# Altium schematic symbol library MCD_TOOLS.SchLib: 86 symbols
Pins are listed as number, name and electrical type; pins without a type are passive.

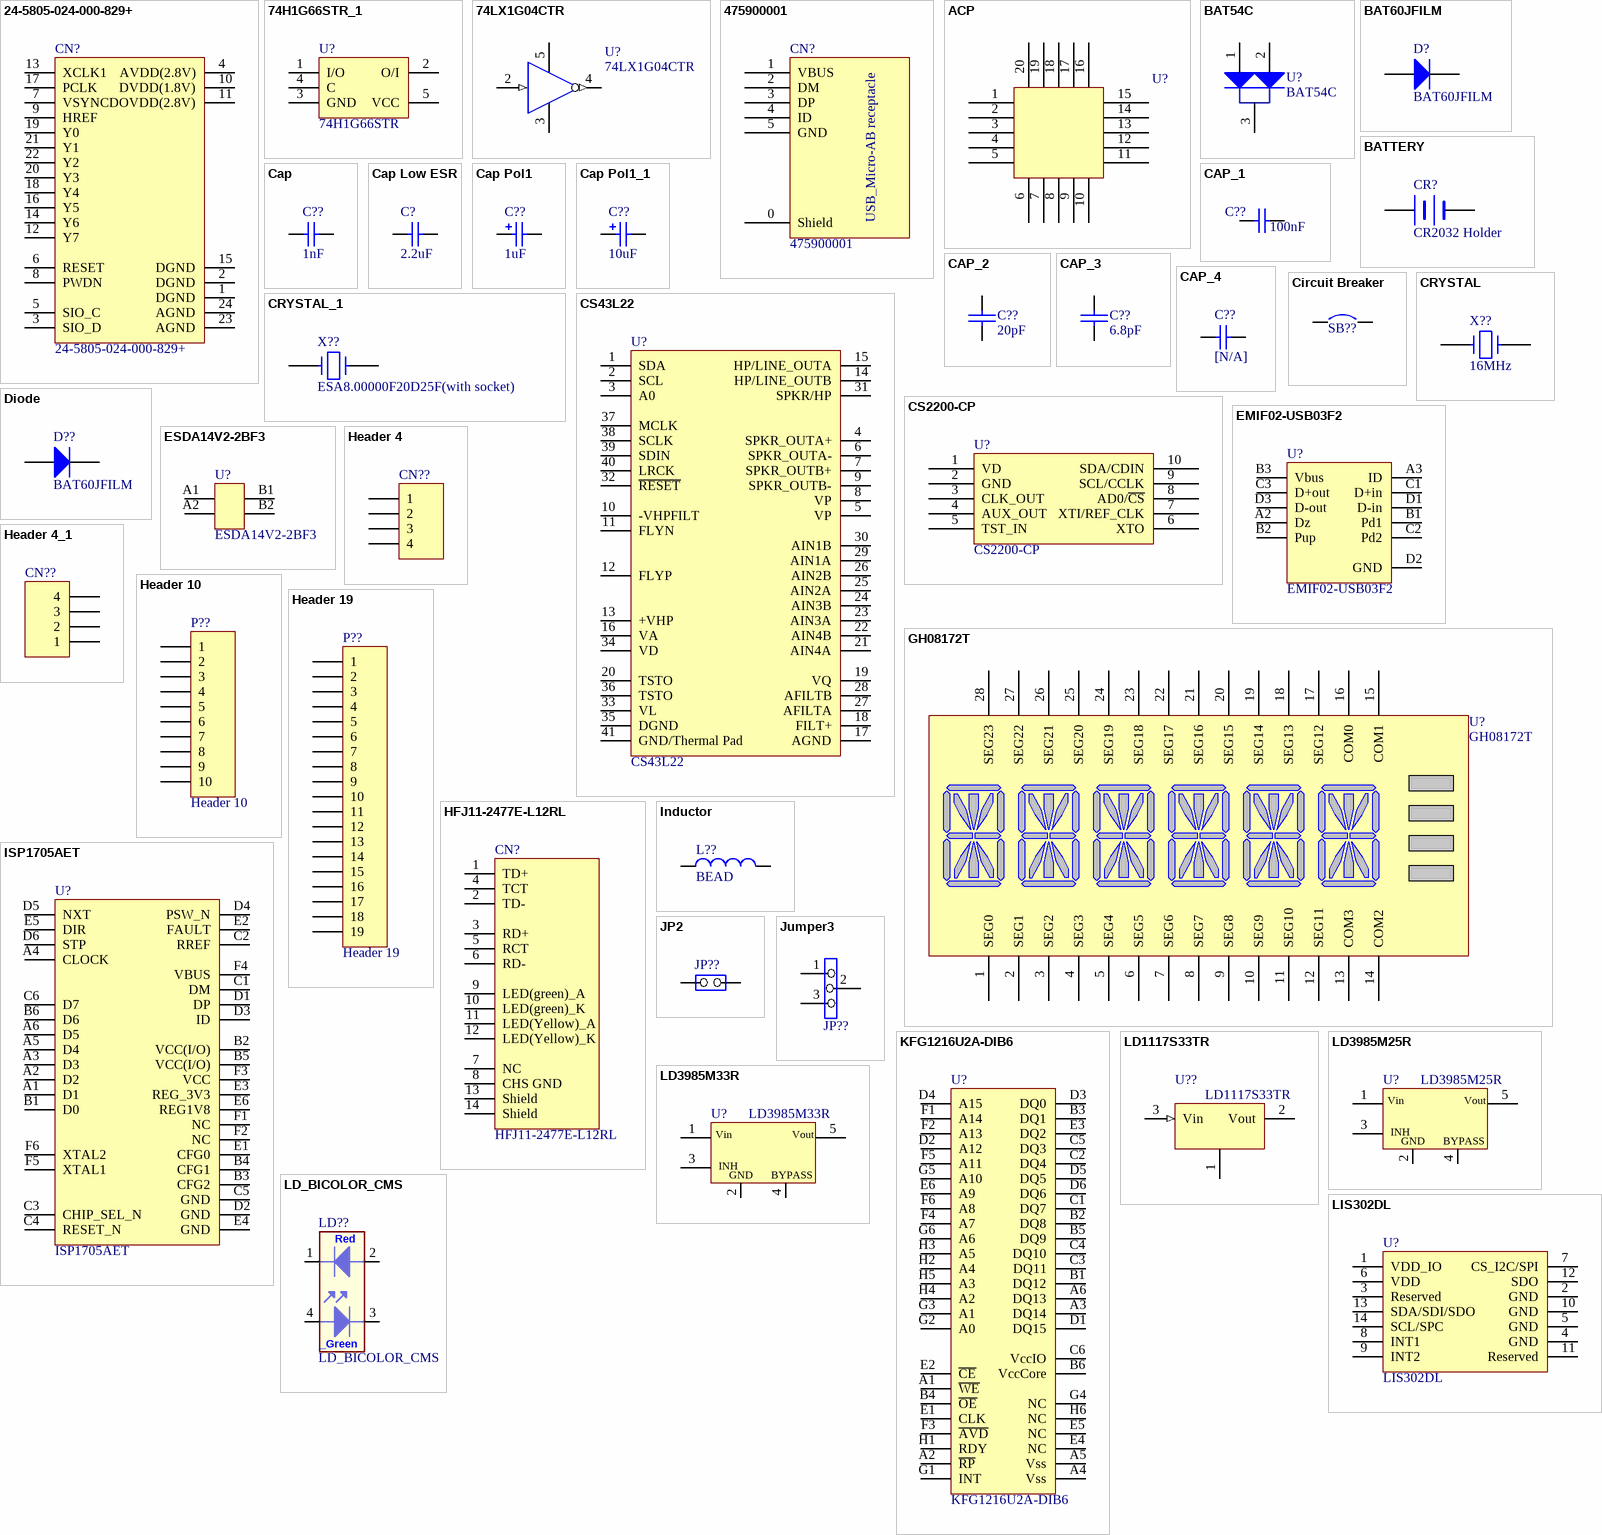
[diagram p0: symbols 24-5805-024-000-829+ to LIS302DL]

## 24-5805-024-000-829+
designator CN?
pins: 1 DGND, 2 DGND, 3 SIO_D, 4 AVDD(2.8V), 5 SIO_C, 6 RESET, 7 VSYNC, 8 PWDN, 9 HREF, 10 DVDD(1.8V), 11 DOVDD(2.8V), 12 Y7, 13 XCLK1, 14 Y6, 15 DGND, 16 Y5, 17 PCLK, 18 Y4, 19 Y0, 20 Y3, 21 Y1, 22 Y2, 23 AGND, 24 AGND

## 74H1G66STR_1
designator U?, comment 74H1G66STR
Provided: ST
footprint Model Name (Footprint not found)
footprint SOT-23-5L
pins: 1 I/O, 2 O/I, 3 GND, 4 C, 5 VCC

## 74LX1G04CTR
designator U?
Provided: ST
footprint Model Name (Footprint not found)
footprint SOT323-5L
pins: 1 NC hidden, 2 1A (in), 3 GND, 4 1Y (out), 5 VCC

## 475900001
designator CN?
pins: 0 Shield, 1 VBUS, 2 DM, 3 DP, 4 ID, 5 GND
text: USB_Micro-AB receptacle

## ACP
designator U?
pins: 1, 2, 3, 4, 5, 6, 7, 8, 9, 10, 11, 12, 13, 14, 15, 16, 17, 18, 19, 20

## BAT54C
designator U?
pins: 1, 2, 3

## BAT60JFILM
designator D?
Manuf_1: STM; Code - JEDEC: DO-214-AB; Provided: ST; Published: 8-Jun-2000; Revision: July-2002: Re-released for DXP Platform.; Publisher: Altium Limited; Order: BAT60JFILM; Manuf_Part_1: BAT60JFILM; Distrib: ST
footprint DSO-C2/X3.3 (DO-214-AB/SMC; 2 C-Bend Leads; Body 7.9 x 5.9 mm, inc. leads (LxW))
simulation model DIODE (Diode)
signal-integrity model Diode
footprint SOD323/A
pins: 1 A, 2 K

## BATTERY
designator CR?, comment CR2032 Holder
Battery; Manufacturer_1: Lotes; Manufacturer_Part_1: KB7410AP2L; Footprint: CR2032/SMT; Dristrib: http://www.bestbattery.co.kr/lotes/lotes.htm
footprint BATT-2.4V160mAH
footprint SOCKET BATTERY AAA DOUBLE
footprint SOCKET BATTERY CR2032 (TRAV)
footprint SOCKET BATTERY CR2032 CMS (1)
footprint SOCKET BATTERY CR2032 CMS (2)
footprint SOCKET BATTERY CR2032 CMS (Keystone)
footprint SOCKET BATTERY LR61/PP3/9V
footprint SOCKET BATTERY LR61/PP3/9V (2)
footprint SOCKET BATTERY AA SIMPLE
pins: 1 +, 2 -
2 alternate drawings of the same symbol

## Cap
designator C??, comment 1nF
Capacitor; Published: 8-Jun-2000; Revision: July-2002: Re-released for DXP Platform.; Publisher: Altium Limited; Value: 1nF
simulation model CAP (Capacitor)
signal-integrity model Cap
footprint 0603 (Footprint not found)
footprint 0603C
footprint 0402C
pins: 1, 2

## Cap Low ESR
designator C?, comment 2.2uF
Low ESR Ceramic Capacitor (X7R); Order: CC1206KKX7R7BB225; Published: 8-Jun-2000; Revision: July-2002: Re-released for DXP Platform.; Publisher: Altium Limited; Value: 2.2uF; Distrib: www.yageo.com
simulation model CAP (Capacitor)
signal-integrity model C200M
footprint CASE-A
pins: 1, 2

## Cap Pol1
designator C??, comment 1uF
Polarized Capacitor (Radial); Published: 8-Jun-2000; Revision: July-2002: Re-released for DXP Platform.; Publisher: Altium Limited; Value: 1uF
simulation model CAP (Capacitor)
signal-integrity model C200M
footprint 3528 (Footprint not found)
footprint TAN-B
footprint 0603C
pins: 1, 2

## Cap Pol1_1
designator C??, comment 10uF
Polarized Capacitor (Radial); Published: 8-Jun-2000; Revision: July-2002: Re-released for DXP Platform.; Publisher: Altium Limited; Value: 10uF
simulation model CAP (Capacitor)
signal-integrity model C200M
footprint 3528 (Footprint not found)
footprint TAN-B
footprint CASE-A
pins: 1, 2

## CAP_1
designator C??, comment 100nF
Capacitor; Value: 100pF; Published: 8-Jun-2000; Revision: July-2002: Re-released for DXP Platform.; Publisher: Altium Limited
footprint RAD-0.3 (Capacitor; 2 Leads)
simulation model CAP (Capacitor)
signal-integrity model Cap
footprint CAPR5.08-7.8X3.2
footprint CAPR2.54-5.1X3.2
footprint 0603
footprint 0603P
footprint 0603C
footprint 0402C
pins: 1, 2

## CAP_2
designator C??, comment 20pF
Capacitor
footprint 0603 (Footprint not found)
footprint 0603C
pins: 1, 2
2 alternate drawings of the same symbol

## CAP_3
designator C??, comment 6.8pF
Capacitor
footprint 0603 (Footprint not found)
footprint 0603C
pins: 1, 2

## CAP_4
designator C??, comment [N/A]
Capacitor; Value: 100pF; Fitted: NO; Published: 8-Jun-2000; Revision: July-2002: Re-released for DXP Platform.; Publisher: Altium Limited
footprint RAD-0.3 (Capacitor; 2 Leads)
simulation model CAP (Capacitor)
signal-integrity model Cap
footprint CAPR5.08-7.8X3.2
footprint CAPR2.54-5.1X3.2
footprint 0603C
pins: 1, 2

## Circuit Breaker
designator SB??  (value not drawn)
Solder: YES; Published: 24-Mar-1999; Revision: July-2002: Re-released for DXP Platform.; Publisher: Altium Limited
footprint SPST-2 (Circuit Breaker; 2 Leads)
footprint JP2_SMD
pins: 1, 2

## CRYSTAL
designator X??, comment 16MHz
Crystal; Fitted: NO
footprint XTAL1 (Footprint not found)
footprint XTAL_SOCKET
pins: 1, 2
2 alternate drawings of the same symbol

## CRYSTAL_1
designator X??, comment ESA8.00000F20D25F(with socket)
Crystal
footprint XTAL1 (Footprint not found)
footprint HC-49AAAAA
pins: 1, 2
2 alternate drawings of the same symbol

## CS43L22
designator U?
Low Power, Stereo DAC w/Headphone & Speaker Amps; Order: *; Manuf_1: *; Manuf_Part_1: *; Fooprint: *
footprint QFN40 (Footprint not found)
pins: 1 SDA, 2 SCL, 3 A0, 4 SPKR_OUTA+, 5 VP, 6 SPKR_OUTA-, 7 SPKR_OUTB+, 8 VP, 9 SPKR_OUTB-, 10 -VHPFILT, 11 FLYN, 12 FLYP, 13 +VHP, 14 HP/LINE_OUTB, 15 HP/LINE_OUTA, 16 VA, 17 AGND, 18 FILT+, 19 VQ, 20 TSTO, 21 AIN4A, 22 AIN4B, 23 AIN3A, 24 AIN3B, 25 AIN2A, 26 AIN2B, 27 AFILTA, 28 AFILTB, 29 AIN1A, 30 AIN1B, 31 SPKR/HP, 32 ~{RESET}, 33 VL, 34 VD, 35 DGND, 36 TSTO, 37 MCLK, 38 SCLK, 39 SDIN, 40 LRCK, 41 GND/Thermal Pad

## CS2200-CP
designator U?
pins: 1 VD, 2 GND, 3 CLK_OUT, 4 AUX_OUT, 5 TST_IN, 6 XTO, 7 XTI/REF_CLK, 8 AD0/~{CS}, 9 SCL/CCLK, 10 SDA/CDIN

## Diode
designator D??, comment BAT60JFILM
Default Diode; Code - JEDEC: DO-214-AB; Provided: ST; Published: 8-Jun-2000; Revision: July-2002: Re-released for DXP Platform.; Publisher: Altium Limited
footprint DSO-C2/X3.3 (DO-214-AB/SMC; 2 C-Bend Leads; Body 7.9 x 5.9 mm, inc. leads (LxW))
simulation model DIODE (Diode)
signal-integrity model Diode
footprint SOD323/A
pins: 1 A, 2 K

## EMIF02-USB03F2
designator U?
2-line IPAD, EMI filter including ESD protection; Manuf_1: STM; Provided: ST; Order: EMIF02-USB03F2; Manuf_Part_1: EMIF02-USB03F2
footprint Flip Chip (Footprint not found)
pins: A2 Dz, A3 ID, B1 Pd1, B2 Pup, B3 Vbus, C1 D+in, C2 Pd2, C3 D+out, D1 D-in, D2 GND, D3 D-out

## ESDA14V2-2BF3
designator U?
pins: A1, A2, B1, B2

## GH08172T
designator U?
footprint DIP28 (Footprint not found)
pins: 1 SEG0, 2 SEG1, 3 SEG2, 4 SEG3, 5 SEG4, 6 SEG5, 7 SEG6, 8 SEG7, 9 SEG8, 10 SEG9, 11 SEG10, 12 SEG11, 13 COM3, 14 COM2, 15 COM1, 16 COM0, 17 SEG12, 18 SEG13, 19 SEG14, 20 SEG15, 21 SEG16, 22 SEG17, 23 SEG18, 24 SEG19, 25 SEG20, 26 SEG21, 27 SEG22, 28 SEG23

## Header 4
designator CN??  (value not drawn)
Header, 4-Pin; Revision: 17-Jul-2002: Re-released for DXP Platform.; Publisher: Altium Limited
signal-integrity model Connector
footprint Header 4 (Footprint not found)
pins: 1, 2, 3, 4

## Header 4_1
designator CN??, comment Header 4  (value not drawn)
Header, 4-Pin; Revision: 17-Jul-2002: Re-released for DXP Platform.; Publisher: Altium Limited
signal-integrity model Connector
footprint Header 4 (Footprint not found)
pins: 1, 2, 3, 4

## Header 10
designator P??
Header, 10-Pin; LatestRevisionDate: 17-Jul-2002; LatestRevisionNote: Re-released for DXP Platform.; Publisher: Altium Limited
footprint HDR1X10 (Connector; Header; 10 Position)
signal-integrity model Connector
pins: 1, 2, 3, 4, 5, 6, 7, 8, 9, 10

## Header 19
designator P??
Header, 19-Pin; LatestRevisionDate: 17-Jul-2002; LatestRevisionNote: Re-released for DXP Platform.; Publisher: Altium Limited
footprint HDR1X19 (Connector; Header; 19 Position)
signal-integrity model Connector
pins: 1, 2, 3, 4, 5, 6, 7, 8, 9, 10, 11, 12, 13, 14, 15, 16, 17, 18, 19

## HFJ11-2477E-L12RL
designator CN?
pins: 1 TD+, 2 TD-, 3 RD+, 4 TCT, 5 RCT, 6 RD-, 7 NC, 8 CHS GND, 9 LED(green)_A, 10 LED(green)_K, 11 LED(Yellow)_A, 12 LED(Yellow)_K, 13 Shield, 14 Shield

## Inductor
designator L??, comment BEAD
Inductor; Value: 100uH; Published: 8-Jun-2000; Revision: July-2002: Re-released for DXP Platform.; Publisher: Altium Limited
footprint 0603 (Footprint not found)
footprint 0603L
pins: 1, 2

## ISP1705AET
designator U?
footprint TFBGA36 (Footprint not found)
pins: A1 D1, A2 D2, A3 D3, A4 CLOCK, A5 D4, A6 D5, B1 D0, B2 VCC(I/O), B3 CFG2, B4 CFG1, B5 VCC(I/O), B6 D6, C1 DM, C2 RREF, C3 CHIP_SEL_N, C4 RESET_N, C5 GND, C6 D7, D1 DP, D2 GND, D3 ID, D4 PSW_N, D5 NXT, D6 STP, E1 CFG0, E2 FAULT, E3 REG_3V3, E4 GND, E5 DIR, E6 REG1V8, F1 NC, F2 NC, F3 VCC, F4 VBUS, F5 XTAL1, F6 XTAL2

## JP2
designator JP??
footprint SIP2/2.54
pins: 1 COMMON, 2 NO

## Jumper3
designator JP??
footprint SIP3 (Footprint not found)
pins: 1, 2, 3

## KFG1216U2A-DIB6
designator U?
footprint FBGA63 (Footprint not found)
pins: A1 ~{WE}, A2 ~{RP}, A3 DQ14, A4 Vss, A5 Vss, A6 DQ13, B1 DQ12, B2 DQ8, B3 DQ1, B4 ~{OE}, B5 DQ9, B6 VccCore, C1 DQ7, C2 DQ4, C3 DQ11, C4 DQ10, C5 DQ3, C6 VccIO, D1 DQ15, D2 A12, D3 DQ0, D4 A15, D5 DQ5, D6 DQ6, E1 CLK, E2 ~{CE}, E3 DQ2, E4 NC, E5 NC, E6 A9, F1 A14, F2 A13, F3 ~{AVD}, F4 A7, F5 A11, F6 A8, G1 INT, G2 A0, G3 A1, G4 NC, G5 A10, G6 A6, H1 RDY, H2 A4, H3 A5, H4 A2, H5 A3, H6 NC

## LD1117S33TR
designator U??
Manuf_1: STM; Provided: ST; Manuf_Part_1: LD1117S33TR; Order: LD1117S33TR
footprint SOT-223
pins: 1, 2 Vout (power), 3 Vin (in)
2 alternate drawings of the same symbol

## LD3985M25R
designator U?
Ultra low drop-low noise BiCMOS voltage, regulators low ESR capacitors compatible; Manuf_1: STM; Provided: ST; Ref St: 9176007; Manuf_Part_1: LD3985M25R
footprint SOT-23-5L
pins: 1 Vin, 2 GND, 3 CE, 4 BYPASS, 5 Vout
text: INH

## LD3985M33R
designator U?
Ultra low drop-low noise BiCMOS voltage, regulators low ESR capacitors compatible; Manuf_1: STM; Provided: ST; Ref St: 9176161; Manuf_Part_1: LD3985M33R; Distrib: ST
footprint SOT-23-5L
pins: 1 Vin, 2 GND, 3 CE, 4 BYPASS, 5 Vout
text: INH

## LD_BICOLOR_CMS
designator LD??
Bicolor Led; Manuf_Part_1: HSMF-A201-A00J1; Manuf_1: Avago Technologies; Ref St: xxxxxx; cap_dec: ----; Distrib: RADIOSPARES; Footprint: HSMF-A201; support: ----
footprint HSMF-A201 (Footprint not found)
pins: 1, 2, 3, 4
text: Red; _Green

## LIS302DL
designator U?
MEMS motion sensor 3-axis - ±2g/±8g smart digital output "piccolo" accelerometer; Manuf_1: STM; Manuf_Part_1: LIS302DLTR; Provided: ST; ref St: 9177944; Distrib: STM; Footprint: LGA14(3*5); Order: LIS302DLTR
footprint LGA14(3*5) (Footprint not found)
pins: 1 VDD_IO, 2 GND, 3 Reserved, 4 GND, 5 GND, 6 VDD, 7 CS_I2C/SPI, 8 INT1, 9 INT2, 10 GND, 11 Reserved, 12 SDO, 13 SDA/SDI/SDO, 14 SCL/SPC

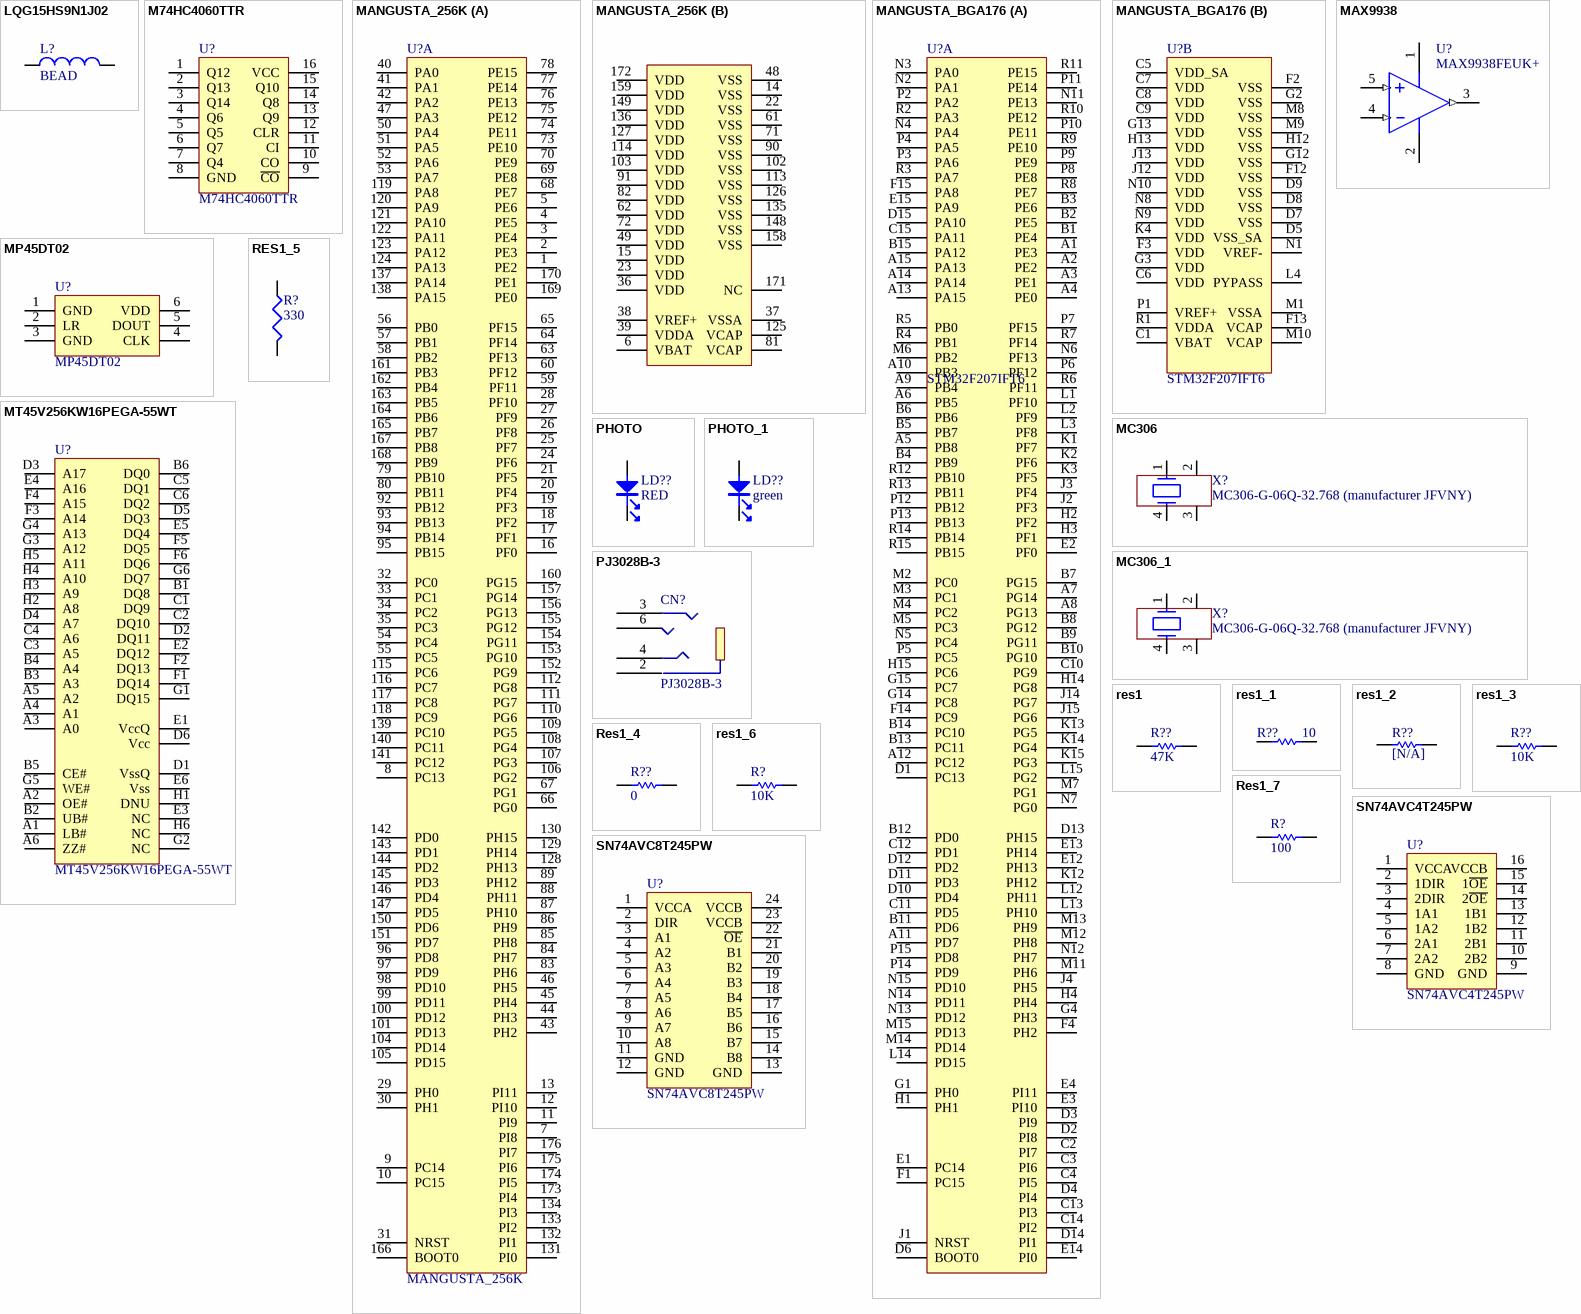
[diagram p1: symbols LQG15HS9N1J02 to SN74AVC8T245PW]

## LQG15HS9N1J02
designator L?, comment BEAD
Inductor 9.1 nH; Manuf_Part_1: LQG15HS9N1J02; Manuf_1: MURATA; Value: 9.1 nH; Published: 8-Jun-2000; Revision: July-2002: Re-released for DXP Platform.; Publisher: Altium Limited; Order: LQG15HS9N1J02
footprint 0402L (Footprint not found)
pins: 1, 2

## M74HC4060TTR
designator U?
Provided: ST
footprint TSSOP (Footprint not found)
footprint TSSOP16 (Footprint not found)
pins: 1 Q12, 2 Q13, 3 Q14, 4 Q6, 5 Q5, 6 Q7, 7 Q4, 8 GND, 9 ~{CO}, 10 CO, 11 CI, 12 CLR, 13 Q9, 14 Q8, 15 Q10, 16 VCC

## MANGUSTA_256K
designator U?
footprint TQFP176 (Footprint not found)
part A pins: 1 PE2, 2 PE3, 3 PE4, 4 PE5, 5 PE6, 7 PI8, 8 PC13, 9 PC14, 10 PC15, 11 PI9, 12 PI10, 13 PI11, 16 PF0, 17 PF1, 18 PF2, 19 PF3, 20 PF4, 21 PF5, 24 PF6, 25 PF7, 26 PF8, 27 PF9, 28 PF10, 29 PH0, 30 PH1, 31 NRST, 32 PC0, 33 PC1, 34 PC2, 35 PC3, 40 PA0, 41 PA1, 42 PA2, 43 PH2, 44 PH3, 45 PH4, 46 PH5, 47 PA3, 50 PA4, 51 PA5, 52 PA6, 53 PA7, 54 PC4, 55 PC5, 56 PB0, 57 PB1, 58 PB2, 59 PF11, 60 PF12, 63 PF13, 64 PF14, 65 PF15, 66 PG0, 67 PG1, 68 PE7, 69 PE8, 70 PE9, 73 PE10, 74 PE11, 75 PE12, 76 PE13, 77 PE14, 78 PE15, 79 PB10, 80 PB11, 83 PH6, 84 PH7, 85 PH8, 86 PH9, 87 PH10, 88 PH11, 89 PH12, 92 PB12, 93 PB13, 94 PB14, 95 PB15, 96 PD8, 97 PD9, 98 PD10, 99 PD11, 100 PD12, 101 PD13, 104 PD14, 105 PD15, 106 PG2, 107 PG3, 108 PG4, 109 PG5, 110 PG6, 111 PG7, 112 PG8, 115 PC6, 116 PC7, 117 PC8, 118 PC9, 119 PA8, 120 PA9, 121 PA10, 122 PA11, 123 PA12, 124 PA13, 128 PH13, 129 PH14, 130 PH15, 131 PI0, 132 PI1, 133 PI2, 134 PI3, 137 PA14, 138 PA15, 139 PC10, 140 PC11, 141 PC12, 142 PD0, 143 PD1, 144 PD2, 145 PD3, 146 PD4, 147 PD5, 150 PD6, 151 PD7, 152 PG9, 153 PG10, 154 PG11, 155 PG12, 156 PG13, 157 PG14, 160 PG15, 161 PB3, 162 PB4, 163 PB5, 164 PB6, 165 PB7, 166 BOOT0, 167 PB8, 168 PB9, 169 PE0, 170 PE1, 173 PI4, 174 PI5, 175 PI6, 176 PI7
part B pins: 6 VBAT, 14 VSS, 15 VDD, 22 VSS, 23 VDD, 36 VDD, 37 VSSA, 38 VREF+, 39 VDDA, 48 VSS, 49 VDD, 61 VSS, 62 VDD, 71 VSS, 72 VDD, 81 VCAP, 82 VDD, 90 VSS, 91 VDD, 102 VSS, 103 VDD, 113 VSS, 114 VDD, 125 VCAP, 126 VSS, 127 VDD, 135 VSS, 136 VDD, 148 VSS, 149 VDD, 158 VSS, 159 VDD, 171 NC, 172 VDD

## MANGUSTA_BGA176
designator U?, comment STM32F207IFT6
footprint UFBGA176 (Footprint not found)
part A pins: A1 PE3, A2 PE2, A3 PE1, A4 PE0, A5 PB8, A6 PB5, A7 PG14, A8 PG13, A9 PB4, A10 PB3, A11 PD7, A12 PC12, A13 PA15, A14 PA14, A15 PA13, B1 PE4, B2 PE5, B3 PE6, B4 PB9, B5 PB7, B6 PB6, B7 PG15, B8 PG12, B9 PG11, B10 PG10, B11 PD6, B12 PD0, B13 PC11, B14 PC10, B15 PA12, C2 PI7, C3 PI6, C4 PI5, C10 PG9, C11 PD5, C12 PD1, C13 PI3, C14 PI2, C15 PA11, D1 PC13, D2 PI8, D3 PI9, D4 PI4, D6 BOOT0, D10 PD4, D11 PD3, D12 PD2, D13 PH15, D14 PI1, D15 PA10, E1 PC14, E2 PF0, E3 PI10, E4 PI11, E12 PH13, E13 PH14, E14 PI0, E15 PA9, F1 PC15, F4 PH2, F14 PC9, F15 PA8, G1 PH0, G4 PH3, G14 PC8, G15 PC7, H1 PH1, H2 PF2, H3 PF1, H4 PH4, H14 PG8, H15 PC6, J1 NRST, J2 PF3, J3 PF4, J4 PH5, J14 PG7, J15 PG6, K1 PF7, K2 PF6, K3 PF5, K12 PH12, K13 PG5, K14 PG4, K15 PG3, L1 PF10, L2 PF9, L3 PF8, L12 PH11, L13 PH10, L14 PD15, L15 PG2, M2 PC0, M3 PC1, M4 PC2, M5 PC3, M6 PB2, M7 PG1, M11 PH6, M12 PH8, M13 PH9, M14 PD14, M15 PD13, N2 PA1, N3 PA0, N4 PA4, N5 PC4, N6 PF13, N7 PG0, N11 PE13, N12 PH7, N13 PD12, N14 PD11, N15 PD10, P2 PA2, P3 PA6, P4 PA5, P5 PC5, P6 PF12, P7 PF15, P8 PE8, P9 PE9, P10 PE11, P11 PE14, P12 PB12, P13 PB13, P14 PD9, P15 PD8, R2 PA3, R3 PA7, R4 PB1, R5 PB0, R6 PF11, R7 PF14, R8 PE7, R9 PE10, R10 PE12, R11 PE15, R12 PB10, R13 PB11, R14 PB14, R15 PB15
part B pins: C1 VBAT, C5 VDD_SA, C6 VDD, C7 VDD, C8 VDD, C9 VDD, D5 VSS_SA, D7 VSS, D8 VSS, D9 VSS, F2 VSS, F3 VDD, F12 VSS, F13 VCAP, G2 VSS, G3 VDD, G12 VSS, G13 VDD, H12 VSS, H13 VDD, J12 VDD, J13 VDD, K4 VDD, L4 PYPASS, M1 VSSA, M8 VSS, M9 VSS, M10 VCAP, N1 VREF-, N8 VDD, N9 VDD, N10 VDD, P1 VREF+, R1 VDDA

## MAX9938
designator U?, comment MAX9938FEUK+
Precision Current-Sense Amplifier; Manuf_1: MAXIM; Manuf_Part_1: MAX9938FEUK+; Order: MAX9938FEUK+
footprint Model Name (Footprint not found)
footprint SOT-23-5L
pins: 1 GND (power), 2 GND (power), 3 OUT (out), 4 Vm (in), 5 Vp (in)

## MC306
designator X?, comment MC306-G-06Q-32.768 (manufacturer JFVNY)
footprint SM8 (Footprint not found)
pins: 1, 2, 3, 4

## MC306_1
designator X?, comment MC306-G-06Q-32.768 (manufacturer JFVNY)
footprint MC306-CRYSTAL
pins: 1, 2, 3, 4

## MP45DT02
designator U?
MEMS audio sensor, omnidirectional digital microphone; Manuf_1: STM; Manuf_Part_1: MP45DT02TR; Provided: ST; Ref St: 9188006; Order: MP45DT02TR
footprint Model Name (Footprint not found)
footprint HLGA-4.72-3.76-6LD (Footprint not found)
pins: 1 GND, 2 LR, 3 GND, 4 CLK, 5 DOUT, 6 VDD (power)

## MT45V256KW16PEGA-55WT
designator U?
footprint VFBGA48 (Footprint not found)
pins: A1 LB#, A2 OE#, A3 A0, A4 A1, A5 A2, A6 ZZ#, B1 DQ8, B2 UB#, B3 A3, B4 A4, B5 CE#, B6 DQ0, C1 DQ9, C2 DQ10, C3 A5, C4 A6, C5 DQ1, C6 DQ2, D1 VssQ, D2 DQ11, D3 A17, D4 A7, D5 DQ3, D6 Vcc, E1 VccQ, E2 DQ12, E3 NC, E4 A16, E5 DQ4, E6 Vss, F1 DQ14, F2 DQ13, F3 A14, F4 A15, F5 DQ5, F6 DQ6, G1 DQ15, G2 NC, G3 A12, G4 A13, G5 WE#, G6 DQ7, H1 DNU, H2 A8, H3 A9, H4 A10, H5 A11, H6 NC

## PHOTO
designator LD??, comment RED
footprint D0603
footprint 0603D
pins: 1, 2
2 alternate drawings of the same symbol

## PHOTO_1
designator LD??, comment green
footprint D0603
footprint LED0603
pins: 1, 2
2 alternate drawings of the same symbol

## PJ3028B-3
designator CN?
pins: 2, 3, 4, 6

## res1
designator R??, comment 47K
Resistor; Published: 8-Jun-2000; Revision: July-2002: Re-released for DXP Platform.; Publisher: Altium Limited; Value: 47K
footprint AXIAL-0.3 (Resistor; 2 Leads)
footprint 0805
footprint 0603
footprint 0402R
pins: 1, 2
1 alternate drawing of the same symbol

## res1_1
designator R??, comment 10
Resistor; Published: 8-Jun-2000; Revision: July-2002: Re-released for DXP Platform.; Publisher: Altium Limited; Value: 10
footprint AXIAL-0.3 (Resistor; 2 Leads)
footprint 0805
footprint 0603
footprint 0402R
footprint 0603R (Footprint not found)
pins: 1, 2
1 alternate drawing of the same symbol

## res1_2
designator R??, comment [N/A]
Resistor; Value: 1K; Fitted: NO; Published: 8-Jun-2000; Revision: July-2002: Re-released for DXP Platform.; Publisher: Altium Limited
footprint AXIAL-0.3 (Resistor; 2 Leads)
simulation model RESISTOR (Resistor)
signal-integrity model Res
footprint 0603 (Footprint not found)
footprint 0603R
pins: 1, 2
1 alternate drawing of the same symbol

## res1_3
designator R??, comment 10K
Resistor; Value: 1K; Published: 8-Jun-2000; Revision: July-2002: Re-released for DXP Platform.; Publisher: Altium Limited
footprint AXIAL-0.3 (Resistor; 2 Leads)
simulation model RESISTOR (Resistor)
signal-integrity model Res
footprint 0603
footprint 0603R
footprint 0402R
pins: 1, 2
1 alternate drawing of the same symbol

## Res1_4
designator R??, comment 0
Resistor; Value: 1K; Published: 8-Jun-2000; Revision: July-2002: Re-released for DXP Platform.; Publisher: Altium Limited
footprint AXIAL-0.3 (Resistor; 2 Leads)
simulation model RESISTOR (Resistor)
signal-integrity model Res
footprint 0603
footprint 0805
footprint 0603R
pins: 1, 2
1 alternate drawing of the same symbol

## RES1_5
designator R?, comment 330
footprint 0603
footprint 0402R
footprint 0603R
pins: 1, 2

## res1_6
designator R?, comment 10K
Resistor; Value: 1K; Published: 8-Jun-2000; Revision: July-2002: Re-released for DXP Platform.; Publisher: Altium Limited
footprint AXIAL-0.3 (Resistor; 2 Leads)
simulation model RESISTOR (Resistor)
signal-integrity model Res
footprint 0603R
pins: 1, 2
1 alternate drawing of the same symbol

## Res1_7
designator R?, comment 100
Resistor; Value: 1K; Published: 8-Jun-2000; Revision: July-2002: Re-released for DXP Platform.; Publisher: Altium Limited
footprint AXIAL-0.3 (Resistor; 2 Leads)
simulation model RESISTOR (Resistor)
signal-integrity model Res
footprint 0805
footprint 0603R
pins: 1, 2
1 alternate drawing of the same symbol

## SN74AVC4T245PW
designator U?
footprint TSSOP16 (Footprint not found)
pins: 1 VCCA, 2 1DIR, 3 2DIR, 4 1A1, 5 1A2, 6 2A1, 7 2A2, 8 GND, 9 GND, 10 2B2, 11 2B1, 12 1B2, 13 1B1, 14 2~{OE}, 15 1~{OE}, 16 VCCB

## SN74AVC8T245PW
designator U?
footprint TSSOP24 (Footprint not found)
pins: 1 VCCA, 2 DIR, 3 A1, 4 A2, 5 A3, 6 A4, 7 A5, 8 A6, 9 A7, 10 A8, 11 GND, 12 GND, 13 GND, 14 B8, 15 B7, 16 B6, 17 B5, 18 B4, 19 B3, 20 B2, 21 B1, 22 ~{OE}, 23 VCCB, 24 VCCB

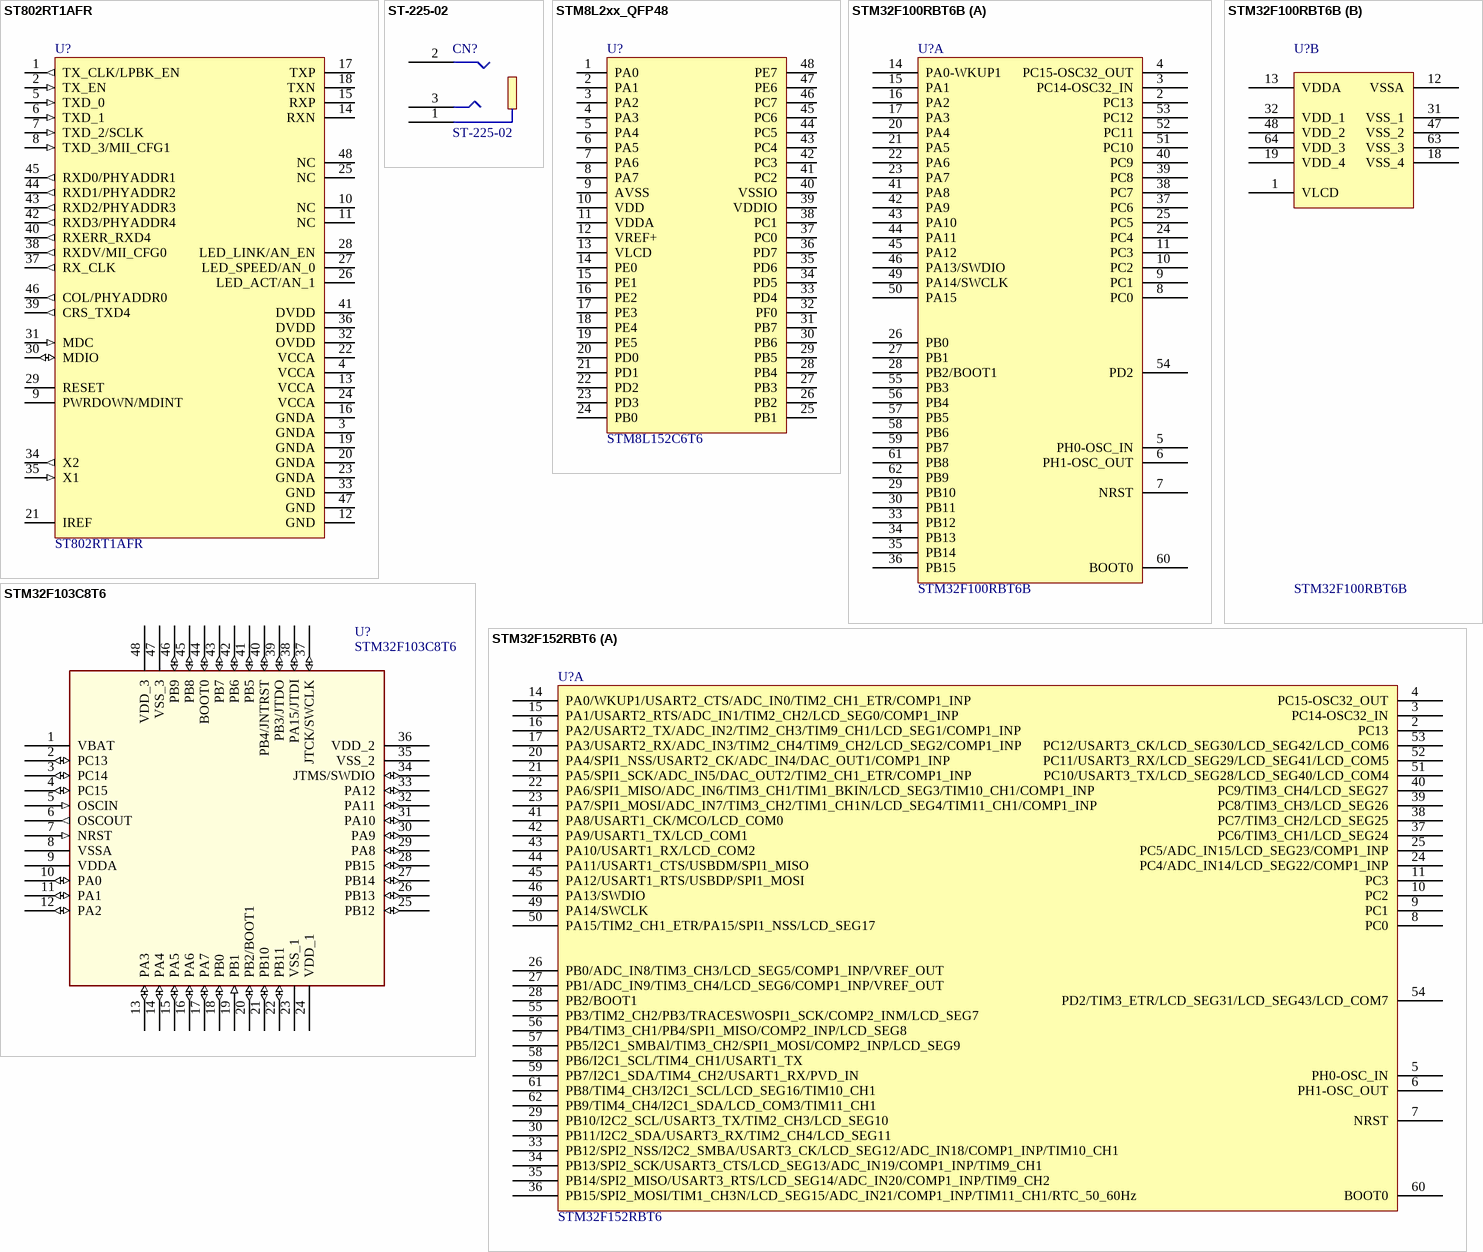
[diagram p2: symbols ST802RT1AFR to STM32F152RBT6]

## ST802RT1AFR
designator U?
pins: 1 TX_CLK/LPBK_EN (out), 2 TX_EN (in), 3 GNDA, 4 VCCA, 5 TXD_0 (in), 6 TXD_1 (in), 7 TXD_2/SCLK (in), 8 TXD_3/MII_CFG1 (in), 9 PWRDOWN/MDINT, 10 NC, 11 NC, 12 GND, 13 VCCA, 14 RXN, 15 RXP, 16 GNDA, 17 TXP, 18 TXN, 19 GNDA, 20 GNDA, 21 IREF, 22 VCCA, 23 GNDA, 24 VCCA, 25 NC, 26 LED_ACT/AN_1, 27 LED_SPEED/AN_0, 28 LED_LINK/AN_EN, 29 RESET, 30 MDIO (io), 31 MDC (in), 32 OVDD, 33 GND, 34 X2 (out), 35 X1 (in), 36 DVDD, 37 RX_CLK (out), 38 RXDV/MII_CFG0 (out), 39 CRS_TXD4 (out), 40 RXERR_RXD4 (out), 41 DVDD, 42 RXD3/PHYADDR4 (out), 43 RXD2/PHYADDR3 (out), 44 RXD1/PHYADDR2 (out), 45 RXD0/PHYADDR1 (out), 46 COL/PHYADDR0 (out), 47 GND, 48 NC

## ST-225-02
designator CN?
Connector Jack 35mm; Manuf_1: XIEJIA Electronics; Order: ST-225-02; Manuf_Part_1: ST-225-02
footprint Jack-ST-225 (Footprint not found)
pins: 1, 2, 3

## STM8L2xx_QFP48
designator U?, comment STM8L152C6T6
Provided: ST
footprint QFP48 (Footprint not found)
footprint LQFP48
pins: 1 PA0, 2 PA1, 3 PA2, 4 PA3, 5 PA4, 6 PA5, 7 PA6, 8 PA7, 9 AVSS, 10 VDD, 11 VDDA, 12 VREF+, 13 VLCD, 14 PE0, 15 PE1, 16 PE2, 17 PE3, 18 PE4, 19 PE5, 20 PD0, 21 PD1, 22 PD2, 23 PD3, 24 PB0, 25 PB1, 26 PB2, 27 PB3, 28 PB4, 29 PB5, 30 PB6, 31 PB7, 32 PF0, 33 PD4, 34 PD5, 35 PD6, 36 PD7, 37 PC0, 38 PC1, 39 VDDIO, 40 VSSIO, 41 PC2, 42 PC3, 43 PC4, 44 PC5, 45 PC6, 46 PC7, 47 PE6, 48 PE7

## STM32F100RBT6B
designator U?
STM32-SCORPIO-QFP64
footprint QFP64
footprint TQFP64_TOOL (Footprint not found)
part A pins: 2 PC13, 3 PC14-OSC32_IN, 4 PC15-OSC32_OUT, 5 PH0-OSC_IN, 6 PH1-OSC_OUT, 7 NRST, 8 PC0, 9 PC1, 10 PC2, 11 PC3, 14 PA0-WKUP1, 15 PA1, 16 PA2, 17 PA3, 20 PA4, 21 PA5, 22 PA6, 23 PA7, 24 PC4, 25 PC5, 26 PB0, 27 PB1, 28 PB2/BOOT1, 29 PB10, 30 PB11, 33 PB12, 34 PB13, 35 PB14, 36 PB15, 37 PC6, 38 PC7, 39 PC8, 40 PC9, 41 PA8, 42 PA9, 43 PA10, 44 PA11, 45 PA12, 46 PA13/SWDIO, 49 PA14/SWCLK, 50 PA15, 51 PC10, 52 PC11, 53 PC12, 54 PD2, 55 PB3, 56 PB4, 57 PB5, 58 PB6, 59 PB7, 60 BOOT0, 61 PB8, 62 PB9
part B pins: 1 VLCD, 12 VSSA, 13 VDDA, 18 VSS_4, 19 VDD_4, 31 VSS_1, 32 VDD_1, 47 VSS_2, 48 VDD_2, 63 VSS_3, 64 VDD_3

## STM32F103C8T6
designator U?
Medium-density performance line ARM-based 32-bit MCU with 64KB Flash; Manuf_1: STM; Ref St: 9175981; Provided: ST; Footprint: QFP48 7X7; Manuf_Part_1: STM32F103C8T6; Order: STM32F103C8T6; Distrib: ST
footprint QFP48 7X7 (Footprint not found)
pins: 1 VBAT (power), 2 PC13 (io), 3 PC14 (io), 4 PC15 (io), 5 OSCIN (in), 6 OSCOUT (out), 7 NRST (in), 8 VSSA (power), 9 VDDA (power), 10 PA0 (io), 11 PA1 (io), 12 PA2 (io), 13 PA3 (io), 14 PA4 (io), 15 PA5 (io), 16 PA6 (io), 17 PA7 (io), 18 PB0 (io), 19 PB1 (in), 20 PB2/BOOT1 (io), 21 PB10 (io), 22 PB11 (io), 23 VSS_1 (power), 24 VDD_1 (power), 25 PB12 (io), 26 PB13 (io), 27 PB14 (io), 28 PB15 (io), 29 PA8 (io), 30 PA9 (io), 31 PA10 (io), 32 PA11 (io), 33 PA12 (io), 34 JTMS/SWDIO (io), 35 VSS_2 (power), 36 VDD_2 (power), 37 JTCK/SWCLK (io), 38 PA15/JTDI (io), 39 PB3/JTDO (io), 40 PB4/JNTRST (io), 41 PB5 (io), 42 PB6 (io), 43 PB7 (io), 44 BOOT0 (io), 45 PB8 (io), 46 PB9 (io), 47 VSS_3 (power), 48 VDD_3 (power)

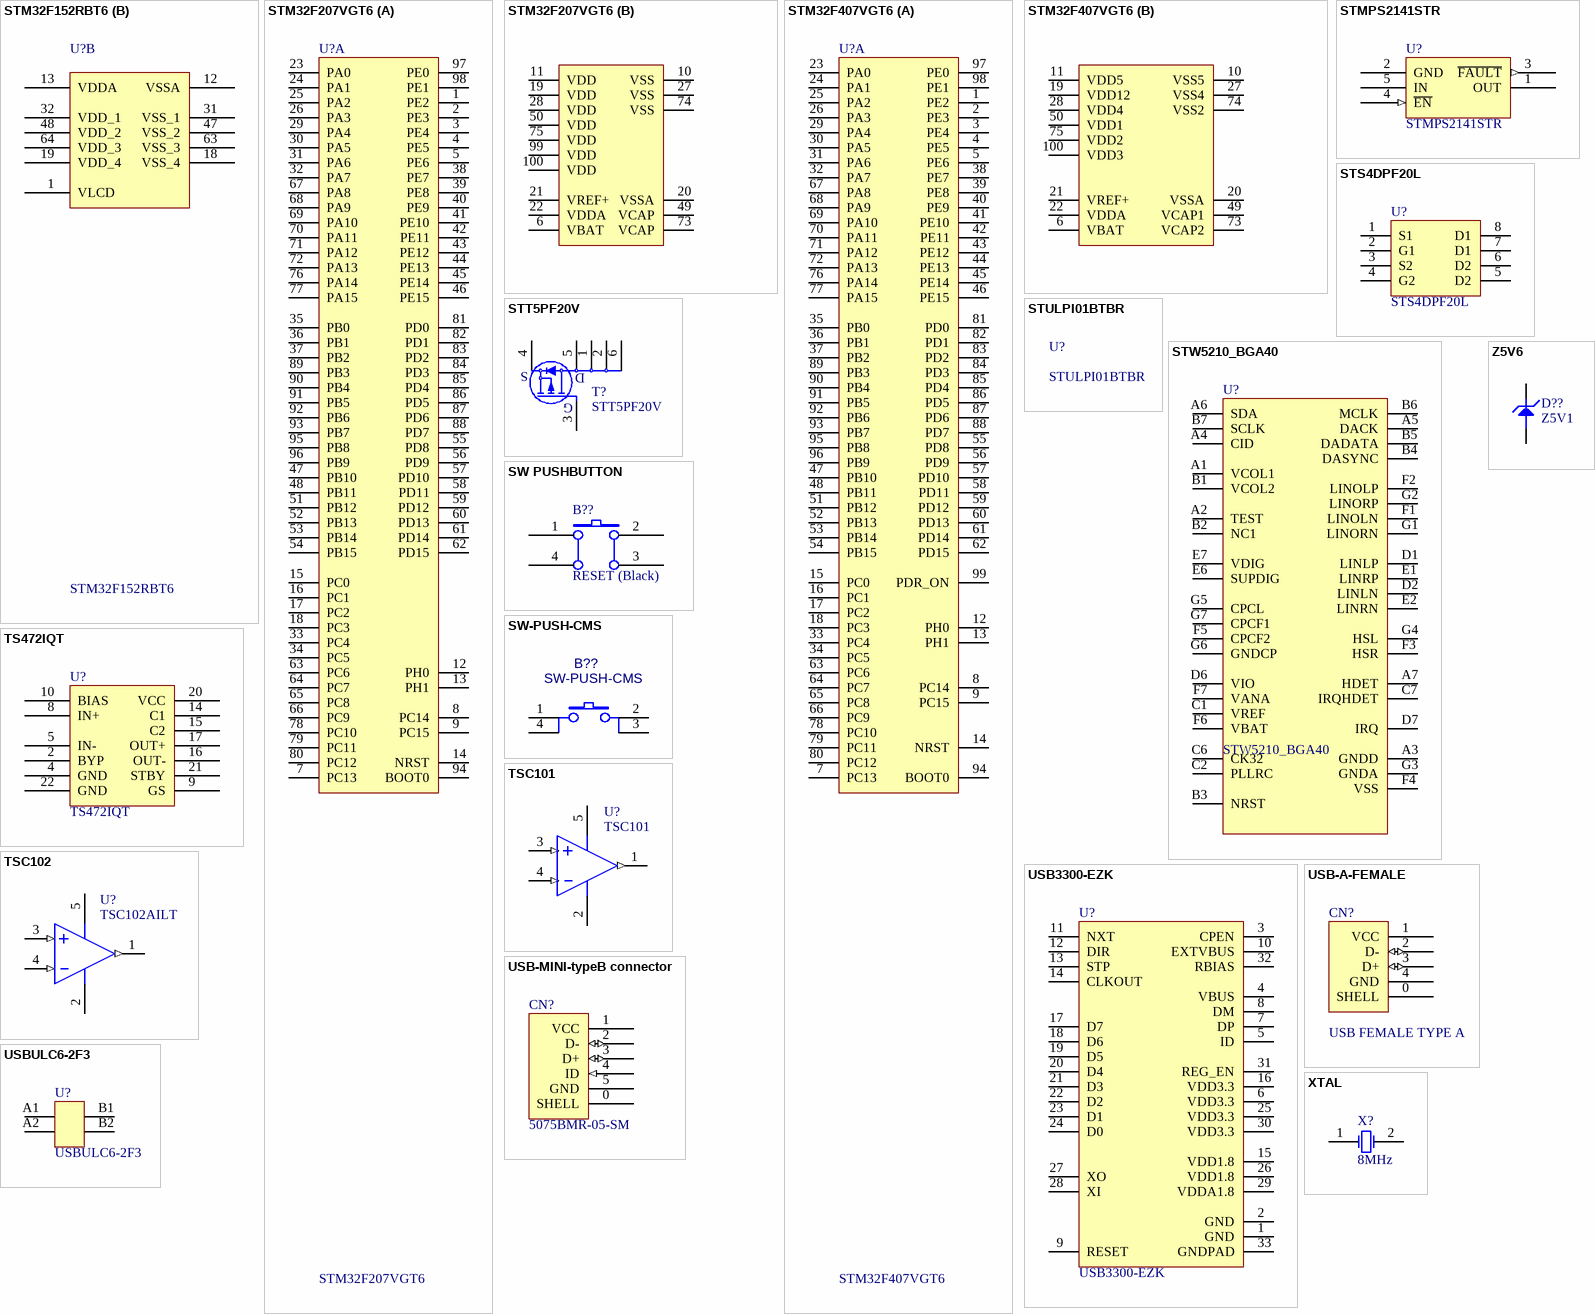
[diagram p3: symbols STM32F152RBT6 to Z5V6]

## STM32F152RBT6
designator U?
Ultralow power ARM-based 32-bit MCU (STM32-SCORPIO); Manufaturer_1: STM; Provided: ST; Distrib: ST; Order: STM32F152RBT6; Manufacturer_Part_1: STM32F152RBT6
footprint QFP64
footprint TQFP64_TOOL (Footprint not found)
part A pins: 2 PC13, 3 PC14-OSC32_IN, 4 PC15-OSC32_OUT, 5 PH0-OSC_IN, 6 PH1-OSC_OUT, 7 NRST, 8 PC0, 9 PC1, 10 PC2, 11 PC3, 14 PA0/WKUP1/USART2_CTS/ADC_IN0/TIM2_CH1_ETR/COMP1_INP, 15 PA1/USART2_RTS/ADC_IN1/TIM2_CH2/LCD_SEG0/COMP1_INP, 16 PA2/USART2_TX/ADC_IN2/TIM2_CH3/TIM9_CH1/LCD_SEG1/COMP1_INP, 17 PA3/USART2_RX/ADC_IN3/TIM2_CH4/TIM9_CH2/LCD_SEG2/COMP1_INP, 20 PA4/SPI1_NSS/USART2_CK/ADC_IN4/DAC_OUT1/COMP1_INP, 21 PA5/SPI1_SCK/ADC_IN5/DAC_OUT2/TIM2_CH1_ETR/COMP1_INP, 22 PA6/SPI1_MISO/ADC_IN6/TIM3_CH1/TIM1_BKIN/LCD_SEG3/TIM10_CH1/COMP1_INP, 23 PA7/SPI1_MOSI/ADC_IN7/TIM3_CH2/TIM1_CH1N/LCD_SEG4/TIM11_CH1/COMP1_INP, 24 PC4/ADC_IN14/LCD_SEG22/COMP1_INP, 25 PC5/ADC_IN15/LCD_SEG23/COMP1_INP, 26 PB0/ADC_IN8/TIM3_CH3/LCD_SEG5/COMP1_INP/VREF_OUT, 27 PB1/ADC_IN9/TIM3_CH4/LCD_SEG6/COMP1_INP/VREF_OUT, 28 PB2/BOOT1, 29 PB10/I2C2_SCL/USART3_TX/TIM2_CH3/LCD_SEG10, 30 PB11/I2C2_SDA/USART3_RX/TIM2_CH4/LCD_SEG11, 33 PB12/SPI2_NSS/I2C2_SMBA/USART3_CK/LCD_SEG12/ADC_IN18/COMP1_INP/TIM10_CH1, 34 PB13/SPI2_SCK/USART3_CTS/LCD_SEG13/ADC_IN19/COMP1_INP/TIM9_CH1, 35 PB14/SPI2_MISO/USART3_RTS/LCD_SEG14/ADC_IN20/COMP1_INP/TIM9_CH2, 36 PB15/SPI2_MOSI/TIM1_CH3N/LCD_SEG15/ADC_IN21/COMP1_INP/TIM11_CH1/RTC_50_60Hz, 37 PC6/TIM3_CH1/LCD_SEG24, 38 PC7/TIM3_CH2/LCD_SEG25, 39 PC8/TIM3_CH3/LCD_SEG26, 40 PC9/TIM3_CH4/LCD_SEG27, 41 PA8/USART1_CK/MCO/LCD_COM0, 42 PA9/USART1_TX/LCD_COM1, 43 PA10/USART1_RX/LCD_COM2, 44 PA11/USART1_CTS/USBDM/SPI1_MISO, 45 PA12/USART1_RTS/USBDP/SPI1_MOSI, 46 PA13/SWDIO, 49 PA14/SWCLK, 50 PA15/TIM2_CH1_ETR/PA15/SPI1_NSS/LCD_SEG17, 51 PC10/USART3_TX/LCD_SEG28/LCD_SEG40/LCD_COM4, 52 PC11/USART3_RX/LCD_SEG29/LCD_SEG41/LCD_COM5, 53 PC12/USART3_CK/LCD_SEG30/LCD_SEG42/LCD_COM6, 54 PD2/TIM3_ETR/LCD_SEG31/LCD_SEG43/LCD_COM7, 55 PB3/TIM2_CH2/PB3/TRACESWOSPI1_SCK/COMP2_INM/LCD_SEG7, 56 PB4/TIM3_CH1/PB4/SPI1_MISO/COMP2_INP/LCD_SEG8, 57 PB5/I2C1_SMBAl/TIM3_CH2/SPI1_MOSI/COMP2_INP/LCD_SEG9, 58 PB6/I2C1_SCL/TIM4_CH1/USART1_TX, 59 PB7/I2C1_SDA/TIM4_CH2/USART1_RX/PVD_IN, 60 BOOT0, 61 PB8/TIM4_CH3/I2C1_SCL/LCD_SEG16/TIM10_CH1, 62 PB9/TIM4_CH4/I2C1_SDA/LCD_COM3/TIM11_CH1
part B pins: 1 VLCD, 12 VSSA, 13 VDDA, 18 VSS_4, 19 VDD_4, 31 VSS_1, 32 VDD_1, 47 VSS_2, 48 VDD_2, 63 VSS_3, 64 VDD_3

## STM32F207VGT6
designator U?
STM32 Mangusta (STM32F207VGT6); Manuf_1: STM; Provided: ST; Manuf_Part_1: STM32F207VGT6; Distrib: ST; Footprint: QFP100
footprint TQFP100 (Footprint not found)
part A pins: 1 PE2, 2 PE3, 3 PE4, 4 PE5, 5 PE6, 7 PC13, 8 PC14, 9 PC15, 12 PH0, 13 PH1, 14 NRST, 15 PC0, 16 PC1, 17 PC2, 18 PC3, 23 PA0, 24 PA1, 25 PA2, 26 PA3, 29 PA4, 30 PA5, 31 PA6, 32 PA7, 33 PC4, 34 PC5, 35 PB0, 36 PB1, 37 PB2, 38 PE7, 39 PE8, 40 PE9, 41 PE10, 42 PE11, 43 PE12, 44 PE13, 45 PE14, 46 PE15, 47 PB10, 48 PB11, 51 PB12, 52 PB13, 53 PB14, 54 PB15, 55 PD8, 56 PD9, 57 PD10, 58 PD11, 59 PD12, 60 PD13, 61 PD14, 62 PD15, 63 PC6, 64 PC7, 65 PC8, 66 PC9, 67 PA8, 68 PA9, 69 PA10, 70 PA11, 71 PA12, 72 PA13, 76 PA14, 77 PA15, 78 PC10, 79 PC11, 80 PC12, 81 PD0, 82 PD1, 83 PD2, 84 PD3, 85 PD4, 86 PD5, 87 PD6, 88 PD7, 89 PB3, 90 PB4, 91 PB5, 92 PB6, 93 PB7, 94 BOOT0, 95 PB8, 96 PB9, 97 PE0, 98 PE1
part B pins: 6 VBAT, 10 VSS, 11 VDD, 19 VDD, 20 VSSA, 21 VREF+, 22 VDDA, 27 VSS, 28 VDD, 49 VCAP, 50 VDD, 73 VCAP, 74 VSS, 75 VDD, 99 VDD, 100 VDD

## STM32F407VGT6
designator U?
STM32 Manta (STM32F407VGT6); Manuf_1: STM; Provided: ST; Manuf_Part_1: STM32F407VGT6; Distrib: ST; Footprint: QFP100; Ref St: *
footprint TQFP100 (Footprint not found)
part A pins: 1 PE2, 2 PE3, 3 PE4, 4 PE5, 5 PE6, 7 PC13, 8 PC14, 9 PC15, 12 PH0, 13 PH1, 14 NRST, 15 PC0, 16 PC1, 17 PC2, 18 PC3, 23 PA0, 24 PA1, 25 PA2, 26 PA3, 29 PA4, 30 PA5, 31 PA6, 32 PA7, 33 PC4, 34 PC5, 35 PB0, 36 PB1, 37 PB2, 38 PE7, 39 PE8, 40 PE9, 41 PE10, 42 PE11, 43 PE12, 44 PE13, 45 PE14, 46 PE15, 47 PB10, 48 PB11, 51 PB12, 52 PB13, 53 PB14, 54 PB15, 55 PD8, 56 PD9, 57 PD10, 58 PD11, 59 PD12, 60 PD13, 61 PD14, 62 PD15, 63 PC6, 64 PC7, 65 PC8, 66 PC9, 67 PA8, 68 PA9, 69 PA10, 70 PA11, 71 PA12, 72 PA13, 76 PA14, 77 PA15, 78 PC10, 79 PC11, 80 PC12, 81 PD0, 82 PD1, 83 PD2, 84 PD3, 85 PD4, 86 PD5, 87 PD6, 88 PD7, 89 PB3, 90 PB4, 91 PB5, 92 PB6, 93 PB7, 94 BOOT0, 95 PB8, 96 PB9, 97 PE0, 98 PE1, 99 PDR_ON
part B pins: 6 VBAT, 10 VSS5, 11 VDD5, 19 VDD12, 20 VSSA, 21 VREF+, 22 VDDA, 27 VSS4, 28 VDD4, 49 VCAP1, 50 VDD1, 73 VCAP2, 74 VSS2, 75 VDD2, 100 VDD3

## STMPS2141STR
designator U?
Enhanced single channel power switches; Manuf_1: STM; Provided: ST; Order: STMPS2141STR; Manuf_Part_1: STMPS2141STR
footprint SOT23-5L (Footprint not found)
pins: 1 OUT, 2 GND, 3 ~{FAULT} (out), 4 ~{EN} (in), 5 IN

## STS4DPF20L
designator U?
STS4DPF20L SO8 package; Manuf_1: STM; LatestRevisionDate: 17-Jul-2002; LatestRevisionNote: Re-released for DXP Platform.; Publisher: Altium Limited; Value: STS4DPF20L; Manuf_Part_1: STS4DPF20L; Order: STS4DPF20L
footprint SO8_M (Footprint not found)
pins: 1 S1, 2 G1, 3 S2, 4 G2, 5 D2, 6 D2, 7 D1, 8 D1

## STT5PF20V
designator T?
Provided: ST
footprint Model Name (Footprint not found)
footprint SOT-23-6L
pins: 1 D, 2 D, 3 G, 4 S, 5 D, 6 D

## STULPI01BTBR
designator U?
footprint uTFBGA36 (3.6x3.6mm Typ) (Footprint not found)

## STW5210_BGA40
designator U?
footprint TFBGA40(4x4x1.2) (Footprint not found)
pins: A1 VCOL1, A2 TEST, A3 GNDD, A4 CID, A5 DACK, A6 SDA, A7 HDET, B1 VCOL2, B2 NC1, B3 NRST, B4 DASYNC, B5 DADATA, B6 MCLK, B7 SCLK, C1 VREF, C2 PLLRC, C6 CK32, C7 IRQHDET, D1 LINLP, D2 LINLN, D6 VIO, D7 IRQ, E1 LINRP, E2 LINRN, E6 SUPDIG, E7 VDIG, F1 LINOLN, F2 LINOLP, F3 HSR, F4 VSS, F5 CPCF2, F6 VBAT, F7 VANA, G1 LINORN, G2 LINORP, G3 GNDA, G4 HSL, G5 CPCL, G6 GNDCP, G7 CPCF1

## SW PUSHBUTTON
designator B??, comment RESET (Black)
SE PUSHBUTTON
footprint PB (Footprint not found)
footprint PB10
pins: 1 A0, 2 B0, 3 B1, 4 A1

## SW-PUSH-CMS
designator B??
Non-Open Push-Button 0.1A 24V; Manuf_1: FARNELL; Manuf_Part_1: 535-930; Ref St: 9180120; cap_dec: ---; Footprint: BP1CMS
footprint BP1CMS (Footprint not found)
pins: 1, 2, 3, 4

## TS472IQT
designator U?
footprint QFN24 (Footprint not found)
pins: 2 BYP, 4 GND, 5 IN-, 8 IN+, 9 GS, 10 BIAS, 14 C1, 15 C2, 16 OUT-, 17 OUT+, 20 VCC, 21 STBY, 22 GND

## TSC101
designator U?
High side current sense amplifier
footprint Model Name (Footprint not found)
footprint SOT-23-5L
pins: 1 OUT (out), 2 GND (power), 3 Vp (in), 4 Vm (in), 5 VDD (power)

## TSC102
designator U?, comment TSC102AILT
footprint Model Name (Footprint not found)
footprint SOT-23-5L
pins: 1 OUT (out), 2 GND (power), 3 Vp (in), 4 Vm (in), 5 VDD (power)

## USB3300-EZK
designator U?
footprint QFN32 (Footprint not found)
pins: 1 GND, 2 GND, 3 CPEN, 4 VBUS, 5 ID, 6 VDD3.3, 7 DP, 8 DM, 9 RESET, 10 EXTVBUS, 11 NXT, 12 DIR, 13 STP, 14 CLKOUT, 15 VDD1.8, 16 VDD3.3, 17 D7, 18 D6, 19 D5, 20 D4, 21 D3, 22 D2, 23 D1, 24 D0, 25 VDD3.3, 26 VDD1.8, 27 XO, 28 XI, 29 VDDA1.8, 30 VDD3.3, 31 REG_EN, 32 RBIAS, 33 GNDPAD

## USB-A-FEMALE
designator CN?, comment USB FEMALE TYPE A
Manufacturer: WUERTH ELEKTRONIK; Manufacturer Part Number: 61400416021; Connector Type: USB Type A; Gender: Receptacle; No. of Contacts: 4; Contact Termination: Solder; Connector Mounting: PCB; SVHC: No SVHC (18; Supplier 1: Farnell; RoHS: YES; Category: Connectors; Stock 1: 2049; Pricing 1: 1=0.78, 10=0.68, 50=0.6, 100=0.53, 250=0.48, 1000=0.44 (GBP); Contact Plating: Gold; Contact Material: Copper Alloy; ComponentLink1URL: http://katalog.we-online.de/kataloge/eican/media/pdf/61400416021.pdf; ComponentLink1Description: http://katalog.we-online.de/kataloge/eican/media/pdf/61400416021.pdf; Supplier Part Number 1: 1642033
footprint USB-A (Footprint not found)
pins: 0 SHELL (power), 1 VCC (power), 2 D- (io), 3 D+ (io), 4 GND (power)
2 alternate drawings of the same symbol

## USB-MINI-typeB connector
designator CN?, comment 5075BMR-05-SM
footprint USB-MINI-B-SMD
footprint USB-B
pins: 0 SHELL (power), 1 VCC (power), 2 D- (io), 3 D+ (io), 4 ID (in), 5 GND (power)
2 alternate drawings of the same symbol

## USBULC6-2F3
designator U?
pins: A1, A2, B1, B2

## XTAL
designator X?, comment 8MHz
Crystal Oscillator; Published: 8-Jun-2000; LatestRevisionDate: 17-Jul-2002; LatestRevisionNote: Re-released for DXP Platform.; PackageReference: R38; Publisher: Altium Limited
footprint R38
footprint XTAL1
pins: 1 OSC1, 2 OSC2
2 alternate drawings of the same symbol

## Z5V6
designator D??, comment Z5V1
footprint SOT-23
pins: 2, 3